# EAGLE library part TRINKET (library mastrogippo)
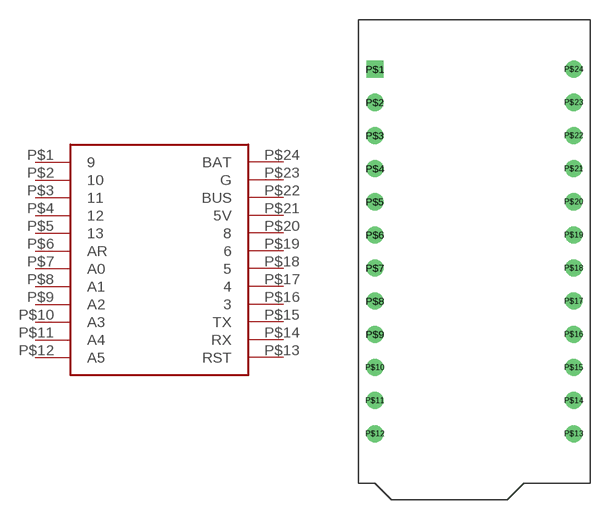
[diagram p3: symbol with the pads of TRINKET; footprint TRINKET]

Designator prefix -

## TRINKET  [TRINKET]
P$1  9
P$2  10
P$3  11
P$4  12
P$5  13
P$6  AR
P$7  A0
P$8  A1
P$9  A2
P$10  A3
P$11  A4
P$12  A5
P$13  RST
P$14  RX
P$15  TX
P$16  3
P$17  4
P$18  5
P$19  6
P$20  8
P$21  5V
P$22  BUS
P$23  G
P$24  BAT

## Footprint TRINKET (pad centres in mm)
drill 0.8 square: P$1 -5.08,6.35
drill 0.8: P$2 -5.08,3.81; P$3 -5.08,1.27; P$4 -5.08,-1.27; P$5 -5.08,-3.81; P$6 -5.08,-6.35; P$7 -5.08,-8.89; P$8 -5.08,-11.43; P$9 -5.08,-13.97; P$10 -5.08,-16.51; P$11 -5.08,-19.05; P$12 -5.08,-21.59; P$13 10.16,-21.59; P$14 10.16,-19.05; P$15 10.16,-16.51; P$16 10.16,-13.97; P$17 10.16,-11.43; P$18 10.16,-8.89; P$19 10.16,-6.35; P$20 10.16,-3.81; P$21 10.16,-1.27; P$22 10.16,1.27; P$23 10.16,3.81; P$24 10.16,6.35